# Altium integrated library Transistors$.IntLib: 27 symbols
Pins are listed as number, name and electrical type; pins without a type are passive.

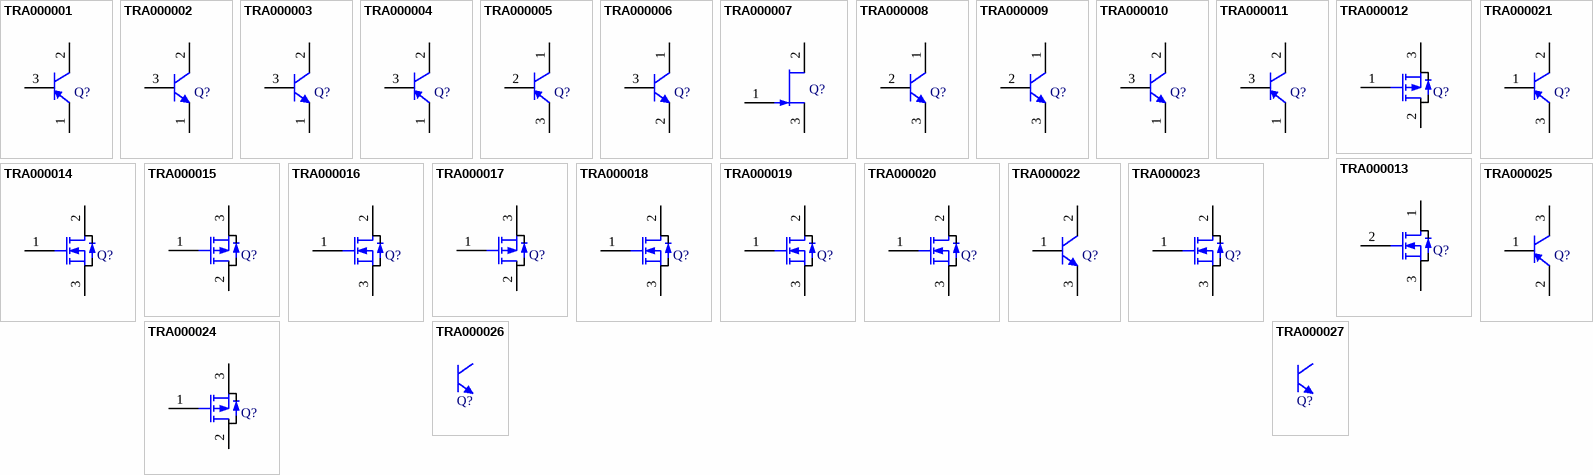
[diagram p0: symbols TRA000001 to TRA000027]

## TRA000001
designator Q?, comment BD180G  (value not drawn)
BD180G PNP Transistor TH; Manufactuer: ON SEMICONDUCTOR; UoA Stock#: TRA000001; Voltage/Current: 80V/1A; Assembly Method: Through hole; Item Type: Item; Path: ece/ts/Lists/Stock Inventory; Value: BD180G; Size/Package: TO-225; Manufacturer-PN: BD180G; Datasheet Link: http://share.engineering.auckland.ac.nz/ece/ts/Student%20Documents/BD180G_transistor.pdf; Supplier1: Element14; Supplier1-PN: 9557067; Component Type: NA; Category: Transistor; Status: Active
footprint ECE-TO225TH
pins: 1 E, 2 C, 3 B

## TRA000002
designator Q?, comment BD179G  (value not drawn)
BD179G NPN Transistor TH; Manufactuer: ON SEMICONDUCTOR; UoA Stock#: TRA000002; Voltage/Current: 80V/1A; Assembly Method: Through hole; Item Type: Item; Path: ece/ts/Lists/Stock Inventory; Value: BD179G; Size/Package: TO-225; Manufacturer-PN: BD179G; Datasheet Link: http://share.engineering.auckland.ac.nz/ece/ts/Student%20Documents/BD179-D.PDF; Supplier1: Element14; Supplier1-PN: 9557059; Component Type: NA; Category: Transistor; Status: Active
footprint ECE-TO225TH
pins: 1 E, 2 C, 3 B

## TRA000003
designator Q?, comment BC639G  (value not drawn)
BC639G NPN Transistor TH; Manufactuer: ON SEMICONDUCTOR; UoA Stock#: TRA000003; Voltage/Current: 80V/1A; Assembly Method: Through hole; Item Type: Item; Path: ece/ts/Lists/Stock Inventory; Value: BC639G; Size/Package: TO-92; Manufacturer-PN: BC639G; Datasheet Link: http://share.engineering.auckland.ac.nz/ece/ts/Student%20Documents/BC639G_transistor.pdf; Supplier1: Element14; Supplier1-PN: 2317553; Supplier2: Active components; Supplier2-PN: BC639; Component Type: NA; Category: Transistor; Status: Active
footprint ECE-TO-92TH
pins: 1 E, 2 C, 3 B

## TRA000004
designator Q?, comment BC640  (value not drawn)
BC640 PNP Transistor TH; Manufactuer: Multicomp; UoA Stock#: TRA000004; Voltage/Current: 80V/1A; Assembly Method: Through hole; Item Type: Item; Path: ece/ts/Lists/Stock Inventory; Value: BC640; Size/Package: TO-92; Manufacturer-PN: BC640; Datasheet Link: http://share.engineering.auckland.ac.nz/ece/ts/Student%20Documents/BC640_transistor.pdf; Supplier1: Active Components; Supplier1-PN: BC640; Supplier2: Element14; Supplier2-PN: BC640; Component Type: NA; Category: Transistor; Status: Active
footprint ECE-TO-92TH
pins: 1 E, 2 C, 3 B

## TRA000005
designator Q?, comment BC557B  (value not drawn)
BC557B PNP Transistor TH; Manufactuer: Multicomp; UoA Stock#: TRA000005; Voltage/Current: 45V/100mA; Assembly Method: Through hole; Item Type: Item; Path: ece/ts/Lists/Stock Inventory; Value: BC557B; Size/Package: TO-92; Manufacturer-PN: BC557B; Datasheet Link: http://share.engineering.auckland.ac.nz/ece/ts/Student%20Documents/BC557B_transistor.pdf; Supplier1: Element 14; Supplier1-PN: 437-840; Supplier2: Active components; Supplier2-PN: BC557; Component Type: NA; Category: Transistor; Status: Active
footprint ECE-TO-92TH
pins: 1 C, 2 B, 3 E

## TRA000006
designator Q?, comment BF199  (value not drawn)
BF199 NPN RF Transistor TH; Manufactuer: NXP Semiconductors; UoA Stock#: TRA000006; Voltage/Current: 40V/25mA; Assembly Method: Through hole; Item Type: Item; Path: ece/ts/Lists/Stock Inventory; Value: BF199; Size/Package: TO-92; Manufacturer-PN: BF199; Datasheet Link: http://share.engineering.auckland.ac.nz/ece/ts/Student%20Documents/BF199_transistor.pdf; Supplier1: Element 14; Supplier1-PN: 357-339; Supplier2: Element14; Supplier2-PN: BF199; Component Type: NA; Category: Transistor; Status: Active
footprint ECE-TO-92TH
pins: 1 C, 2 E, 3 B

## TRA000007
designator Q?, comment BF245A  (value not drawn)
BF245A NPN JFET TO-92 TH; Manufactuer: NXP Semiconductors; UoA Stock#: TRA000007; Assembly Method: Through hole; Item Type: Item; Path: ece/ts/Lists/Stock Inventory; Value: BF245A; Manufacturer-PN: BF245A; Datasheet Link: http://share.engineering.auckland.ac.nz/ece/ts/Student%20Documents/BC245A_transistor.pdf; Supplier1: Element 14; Supplier1-PN: 1758053; Component Type: NA; Category: Transistor; Status: Active
footprint ece-TO-92
footprint ECE-TO-92TH
pins: 1 G, 2 D, 3 S

## TRA000008
designator Q?, comment BC549C  (value not drawn)
BC549C NPN Transistor TH; Manufactuer: ON SEMICONDUCTOR; UoA Stock#: TRA000008; Voltage/Current: 30V/100mA; Assembly Method: Through hole; Item Type: Item; Path: ece/ts/Lists/Stock Inventory; Value: BC549C; Size/Package: TO-92; Manufacturer-PN: BC549C; Datasheet Link: http://share.engineering.auckland.ac.nz/ece/ts/Student%20Documents/BC549C_transistor.pdf; Supplier1: Active Components; Supplier1-PN: BC549C; Component Type: NA; Category: Transistor; Status: Active
footprint ECE-TO-92TH
pins: 1 C, 2 B, 3 E

## TRA000009
designator Q?, comment BC547B  (value not drawn)
BC547B NPN Transistor TH; Manufactuer: ON SEMICONDUCTOR; UoA Stock#: TRA000009; Voltage/Current: 45V/100mA; Assembly Method: Through hole; Item Type: Item; Path: ece/ts/Lists/Stock Inventory; Value: BC547B; Size/Package: TO-92; Manufacturer-PN: BC547B; Datasheet Link: http://share.engineering.auckland.ac.nz/ece/ts/Student%20Documents/BC547B_transistor.pdf; Supplier1: Active Components; Supplier1-PN: BC547B; Component Type: NA; Category: Transistor; Status: Active
footprint ECE-TO-92TH
pins: 1 C, 2 B, 3 E

## TRA000010
designator Q?, comment TBD139  (value not drawn)
TBD139 NPN Transistor TH; Manufactuer: Multicomp; UoA Stock#: TRA000010; Voltage/Current: 80V/1.5A; Assembly Method: Through hole; Item Type: Item; Path: ece/ts/Lists/Stock Inventory; Value: TBD139; Size/Package: TO-126; Manufacturer-PN: TBD139; Datasheet Link: http://share.engineering.auckland.ac.nz/ece/ts/Student%20Documents/BD139_transistor.pdf; Supplier1: Element14; Supplier1-PN: 920-7260; Supplier2: Element14; Supplier2-PN: TBD139; Component Type: NA; Category: Transistor; Status: Active
footprint ECE-TO126TH
pins: 1 E, 2 C, 3 B

## TRA000011
designator Q?, comment TBD140  (value not drawn)
TBD140 PNP Transistor TH; Manufactuer: Multicomp; UoA Stock#: TRA000011; Voltage/Current: 80V/1.5A; Assembly Method: Through hole; Item Type: Item; Path: ece/ts/Lists/Stock Inventory; Value: TBD140; Size/Package: TO-126; Manufacturer-PN: TBD140; Datasheet Link: http://share.engineering.auckland.ac.nz/ece/ts/Student%20Documents/BD140_transistor.pdf; Supplier1: Farnell; Supplier1-PN: 920-7279; Supplier2: Element14; Supplier2-PN: TBD140; Component Type: NA; Category: Transistor; Status: Active
footprint ECE-TO126TH
pins: 1 E, 2 C, 3 B

## TRA000012
designator Q?, comment SUP75P05  (value not drawn)
P-Type MOSFET SUP75P05 TH; Manufactuer: Vishay; Manufacturer-PN: SUP75P05-08-E3; UoA Stock#: TRA000012; Voltage/Current: 55V/75A; Assembly Method: Through hole; Item Type: Item; Path: ece/ts/Lists/Stock Inventory; Value: SUP75P05; Size/Package: TO220AB; Datasheet Link: http://share.engineering.auckland.ac.nz/ece/ts/Student%20Documents/SUP75P05-08-E3.pdf; Supplier1: Element14; Supplier1-PN: 2295741; Component Type: NA; Category: Transistor; Status: Obsolete
footprint ECE-TO220ABTH
pins: 1 G, 2 D, 3 S

## TRA000013
designator Q?, comment BS170N  (value not drawn)
BS170 N-Type MOSFET TH; Manufactuer: Fairchild; UoA Stock#: TRA000013; Assembly Method: Through hole; Item Type: Item; Path: ece/ts/Lists/Stock Inventory; Value: BS170N; Manufacturer-PN: BS170; Datasheet Link: http://share.engineering.auckland.ac.nz/ece/ts/Student%20Documents/BS170.pdf; Supplier1: Element 14; Supplier1-PN: 101-7687; Component Type: NA; Category: Transistor; Status: Active
footprint ECE-T092ST
pins: 1 D, 2 G, 3 S

## TRA000014
designator Q?, comment IRF610  (value not drawn)
N-Type MOSFET IRF610 TH; Manufactuer: International Rectifier; Manufacturer-PN: IRF610PBF; UoA Stock#: TRA000014; Voltage/Current: 200V/3.3A; Assembly Method: Through hole; Item Type: Item; Path: ece/ts/Lists/Stock Inventory; Value: IRF610; Size/Package: TO220AB; Datasheet Link: http://share.engineering.auckland.ac.nz/ece/ts/Student%20Documents/irf610.pdf; Supplier1: Element14; Supplier1-PN: 8648328; Component Type: NA; Category: Transistor; Status: Obsolete
footprint ECE-TO220ABTH
pins: 1 G, 2 D, 3 S

## TRA000015
designator Q?, comment FQP17P10  (value not drawn)
FQP17P10 P-Type MOSFET TH; Manufactuer: Fairchild; UoA Stock#: TRA000015; Voltage/Current: 100V/16.5A; Assembly Method: Through hole; Item Type: Item; Path: ece/ts/Lists/Stock Inventory; Value: FQP17P10; Size/Package: TO220AB; Manufacturer-PN: FQP17P10; Datasheet Link: http://share.engineering.auckland.ac.nz/ece/ts/Student%20Documents/FQP17P10_MOSFET.pdf; Supplier1: Element14; Supplier1-PN: 984-6514; Supplier2: Element14; Supplier2-PN: FQP17P10; Component Type: NA; Category: Transistor; Status: Active
footprint ECE-TO220ABTH
pins: 1 G, 2 D, 3 S

## TRA000016
designator Q?, comment IRLU024  (value not drawn)
N-Type FET IRLU024 TH; Manufactuer: International Rectifier; Manufacturer-PN: IRLU024NPBF; UoA Stock#: TRA000016; Voltage/Current: 55V/17A; Assembly Method: Through hole; Item Type: Item; Path: ece/ts/Lists/Stock Inventory; Value: IRLU024; Datasheet Link: http://share.engineering.auckland.ac.nz/ece/ts/Student%20Documents/IRLU024_MOSFET.pdf; Supplier1: Active Components; Supplier1-PN: IRLU024N; Supplier2: Active Components; Supplier2-PN: IRLU024NPBF; Component Type: NA; Category: Transistor; Status: Active
footprint ECE-TO251AA
pins: 1 G, 2 D, 3 S

## TRA000017
designator Q?, comment IRF4905  (value not drawn)
P-Type MOSFET IRF4905 TH; Manufactuer: International Rectifier; Manufacturer-PN: IRF4905PBF; UoA Stock#: TRA000017; Voltage/Current: 55V/74A; Assembly Method: Through hole; Item Type: Item; Path: ece/ts/Lists/Stock Inventory; Value: IRF4905; Size/Package: TO220AB; Datasheet Link: http://share.engineering.auckland.ac.nz/ece/ts/Student%20Documents/IRF4905_MOSFET.pdf; Supplier1: Arrow Components; Supplier1-PN: IRF4905; Supplier2: Element 14; Supplier2-PN: 1298510; Component Type: NA; Category: Transistor; Status: Active
footprint ECE-TO220ABTH
pins: 1 G, 2 D, 3 S

## TRA000018
designator Q?, comment IRF3205  (value not drawn)
N-Type MOSFET IRF3205 TH; Manufactuer: International Rectifier; Manufacturer-PN: IRF3205PBF; UoA Stock#: TRA000018; Voltage/Current: 55V/110A; Assembly Method: Through hole; Item Type: Item; Path: ece/ts/Lists/Stock Inventory; Value: IRF3205; Size/Package: TO220AB; Datasheet Link: http://share.engineering.auckland.ac.nz/ece/ts/Student%20Documents/IRF3205_MOSFET.pdf; Supplier1: Arrow Components; Supplier1-PN: IRF3205; Supplier2: Active; Supplier2-PN: IRF3205PBF; Component Type: NA; Category: Transistor; Status: Active
footprint ECE-TO220ABTH
pins: 1 G, 2 D, 3 S

## TRA000019
designator Q?, comment FQP13N10N  (value not drawn)
FQP13N10 N-Type MOSFET TH; Manufactuer: Fairchild; UoA Stock#: TRA000019; Voltage/Current: 100V/12.8A; Assembly Method: Through hole; Item Type: Item; Path: ece/ts/Lists/Stock Inventory; Value: FQP13N10N; Size/Package: TO220AB; Manufacturer-PN: FQP13N10; Datasheet Link: http://share.engineering.auckland.ac.nz/ece/ts/Student%20Documents/FQP13N10_MOSFET.pdf; Supplier1: RS; Supplier1-PN: 671-5023; Supplier2: RS; Supplier2-PN: FQP13N10; Component Type: NA; Category: Transistor; Status: Active
footprint ECE-TO220ABTH
pins: 1 G, 2 D, 3 S

## TRA000020
designator Q?, comment IRF1405  (value not drawn)
N-Type MOSFET iRF1405 TH; Manufactuer: International Rectifier; Manufacturer-PN: IRF1405PBF; UoA Stock#: TRA000020; Voltage/Current: 55V/169A; Assembly Method: Through hole; Item Type: Item; Path: ece/ts/Lists/Stock Inventory; Value: IRF1405; Size/Package: TO220AB; Datasheet Link: http://share.engineering.auckland.ac.nz/ece/ts/Student%20Documents/IRF1405_MOSFET.pdf; Supplier1: Arrow Components; Supplier1-PN: IRF1405; Supplier2: Element14; Supplier2-PN: IRF1405PBF; Component Type: NA; Category: Transistor; Status: Active
footprint ECE-TO220ABTH
pins: 1 G, 2 D, 3 S

## TRA000021
designator Q?, comment BCP53  (value not drawn)
BCP53 PNP Transistor SM; Manufactuer: NXP Semiconductors; Manufacturer-PN: BCP53-16,115; UoA Stock#: TRA000021; Voltage/Current: 80V/1A; Assembly Method: Surface Mount; Item Type: Item; Path: ece/ts/Lists/Stock Inventory; Value: BCP53; Size/Package: SOT-223; Datasheet Link: http://share.engineering.auckland.ac.nz/ece/ts/Student%20Documents/BCP53_BCX53_BC53PA.pdf; Supplier1: Digikey; Supplier1-PN: 568-6105-2-ND; Component Type: TRA-SOT223-BCP53; Category: Transistor; Status: Active
footprint ECE-SOT223SM
pins: 1 B, 2 C, 3 E, 4 C

## TRA000022
designator Q?, comment BCP56  (value not drawn)
BCP56 NPN Transistor SM; Manufactuer: Diodes Inc; Manufacturer-PN: BCP5616TA; UoA Stock#: TRA000022; Voltage/Current: 80V/1A; Assembly Method: Surface Mount; Item Type: Item; Path: ece/ts/Lists/Stock Inventory; Value: BCP56; Size/Package: SOT-223; Datasheet Link: http://share.engineering.auckland.ac.nz/ece/ts/Student%20Documents/BCP56,BCX56.pdf; Supplier1: Digikey; Supplier1-PN: BCP5616TATR-ND; Component Type: TRA-SOT223-BCP56; Category: Transistor; Status: Active
footprint ECE-SOT223SM
pins: 1 B, 2 C, 3 E, 4 C

## TRA000023
designator Q?, comment FQB33N10  (value not drawn)
N Channel MOSFET FQB33N10; Manufactuer: Fairchild; Manufacturer-PN: FQB33N10LTM; UoA Stock#: TRA000023; Voltage/Current: 100V/33A; Assembly Method: Surface Mount; Item Type: Item; Path: ece/ts/Lists/Stock Inventory; Value: FQB33N10; Size/Package: D2PAK; Datasheet Link: http://share.engineering.auckland.ac.nz/ece/ts/Student%20Documents/FQB33N10L.pdf; Supplier1: Digikey; Supplier1-PN: FQB33N10LTMCT-ND; Component Type: TRA-D2PAK-FQB33N; Category: Transistor; Status: Active
footprint ECE-D2PAKSM
pins: 1 G, 2 D, 3 S

## TRA000024
designator Q?, comment FQB22P10  (value not drawn)
P Channel MOSFET FQB22P10; Manufactuer: Fairchild; Manufacturer-PN: FQB22P10TM; UoA Stock#: TRA000024; Voltage/Current: 100V/22A; Assembly Method: Surface Mount; Item Type: Item; Path: ece/ts/Lists/Stock Inventory; Value: FQB22P10; Size/Package: D2PAK; Datasheet Link: http://share.engineering.auckland.ac.nz/ece/ts/Student%20Documents/FQB22P10.pdf; Supplier1: Digikey; Supplier1-PN: FQB22P10TMCT-ND; Component Type: TRA-D2PAK-FQB22P; Category: Transistor; Status: Active
footprint ECE-D2PAKSM
pins: 1 G, 2 D, 3 S

## TRA000025
designator Q?, comment BC807-40,215  (value not drawn)
TRANS PNP GP 500MA 45V SOT23; Manufactuer: NXP Semiconductors; UoA Stock#: TRA000025; Voltage/Current: 45V/500mA; Assembly Method: Surface Mount; Item Type: Item; Path: ece/ts/Lists/Stock Inventory; Value: BC807-40,215; Size/Package: SOT23; Manufacturer-PN: BC807-40,215; Datasheet Link: http://share.engineering.auckland.ac.nz/ece/ts/Student%20Documents/BC807_BC807W_BC327.pdf; Supplier1: Digikey; Supplier1-PN: 568-1629-2-ND; Component Type: TRA-SOT23-BC807; Category: Transistor; Status: Active
footprint ECE-SOT23SM
pins: 1 B, 2 E, 3 C

## TRA000026
designator Q?, comment BC817-40,215  (value not drawn)
TRANS NPN GP 500 45V SOT23; Manufactuer: NXP Semiconductors; UoA Stock#: TRA000026; Voltage/Current: 45V/500mA; Assembly Method: Surface Mount; Item Type: Item; Path: ece/ts/Lists/Stock Inventory; Value: BC817-40,215; Size/Package: SOT23; Manufacturer-PN: BC817-40,215; Datasheet Link: http://share.engineering.auckland.ac.nz/ece/ts/Student%20Documents/BC817_BC817W_BC337.pdf; Supplier1: Digikey; Supplier1-PN: 568-1631-2-ND; Component Type: TRA-SOT23-BC817; Category: Transistor; Status: Active
footprint ECE-SOT23SM

## TRA000027
designator Q?, comment 2SC2412K  (value not drawn)
TRANS NPN 2SC2412 50V SOT23; Manufactuer: ROHM; Manufacturer-PN: 2SC2412KT146R; UoA Stock#: TRA000027; Voltage/Current: 50V/0.15A; Assembly Method: Surface Mount; Item Type: Item; Path: ece/ts/Lists/Stock Inventory; Value: 2SC2412K; Size/Package: SOT23; Datasheet Link: http://share.engineering.auckland.ac.nz/ece/ts/Student%20Documents/2SC2412KT146Q.pdf; Supplier1: Digikey; Supplier1-PN: 2SC2412KT146RCT-ND; Component Type: TRA-SOT23-2SC2412; Category: Transistor; Status: Non Stocked
footprint ECE-SOT23SM